# EAGLE library part CONVERSOR-LCD-I2C (library CaliBeta-Modulos)
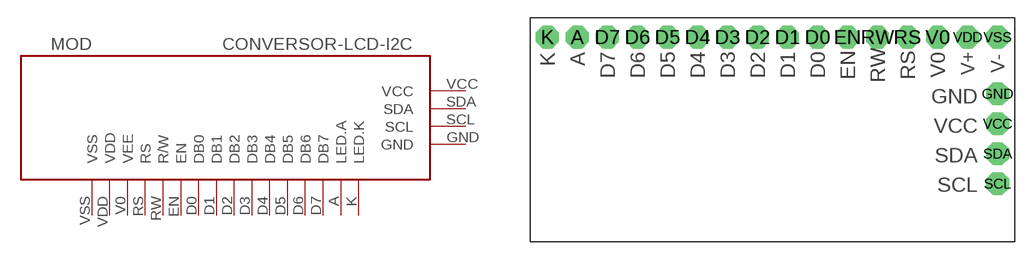
[diagram p3: symbol with the pads of CONVERSOR-LCD-I2C; footprint CONVERSOR-LCD-I2C]

Designator prefix MOD

## CONVERSOR-LCD-I2C  [CONVERSOR-LCD-I2C]
A  LED.A
D0  DB0
D1  DB1
D2  DB2
D3  DB3
D4  DB4
D5  DB5
D6  DB6
D7  DB7
EN  EN
GND  GND  pwr
K  LED.K
RS  RS
RW  R/W
SCL  SCL
SDA  SDA
V0  VEE
VCC  VCC  pwr
VDD  VDD
VSS  VSS

## Footprint CONVERSOR-LCD-I2C (pad centres in mm)
drill 0.9 pad 1.93 octagon: A -16.51,8.85; D0 3.81,8.85; D1 1.27,8.85; D2 -1.27,8.85; D3 -3.81,8.85; D4 -6.35,8.85; D5 -8.89,8.85; D6 -11.43,8.85; D7 -13.97,8.85; EN 6.35,8.85; GND 19.05,4.048; K -19.05,8.85; RS 11.43,8.85; RW 8.89,8.85; SCL 19.05,-3.572; SDA 19.05,-1.032; V0 13.97,8.85; VCC 19.05,1.508; VDD 16.51,8.85; VSS 19.05,8.85